# EAGLE library part 7-SEGMENT (library candrian)
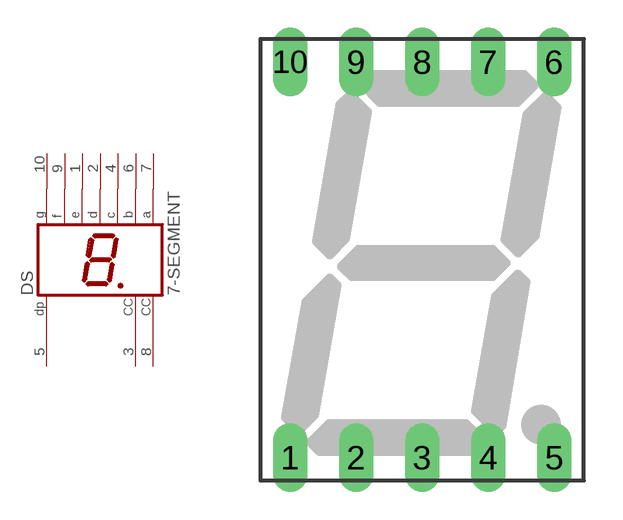
[diagram p14: symbol with the pads of 7-SEG-15; footprint 7-SEG-15]

Designator prefix DS

## 7-SEGMENTCC  [7-SEG-15]
1  E  pas
2  D  pas
3  CC  pas
4  C  pas
5  DP  pas
6  B  pas
7  A  pas
8  CC  pas
9  F  pas
10  G  pas

## Footprint 7-SEG-15 (pad centres in mm)
drill 0.813 long: 1 -5.08,-7.62; 2 -2.54,-7.62; 3 0,-7.62; 4 2.54,-7.62; 5 5.08,-7.62; 6 5.08,7.62; 7 2.54,7.62; 8 0,7.62; 9 -2.54,7.62; 10 -5.08,7.62